# Altium schematic symbol library CAN.SCHLIB: 1 symbol
Pins are listed as number, name and electrical type; pins without a type are passive.

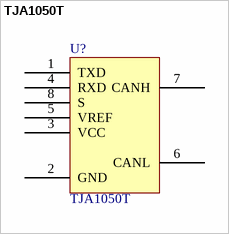
[diagram p0: symbol TJA1050T]

## TJA1050T
designator U?
Value: TJA1050T
footprint 8SOIC150
pins: 1 TXD, 2 GND, 3 VCC, 4 RXD, 5 VREF, 6 CANL, 7 CANH, 8 S